# Altium schematic symbol library EasyARM-i.MX283-EV.SCHLIB: 58 symbols
Pins are listed as number, name and electrical type; pins without a type are passive.

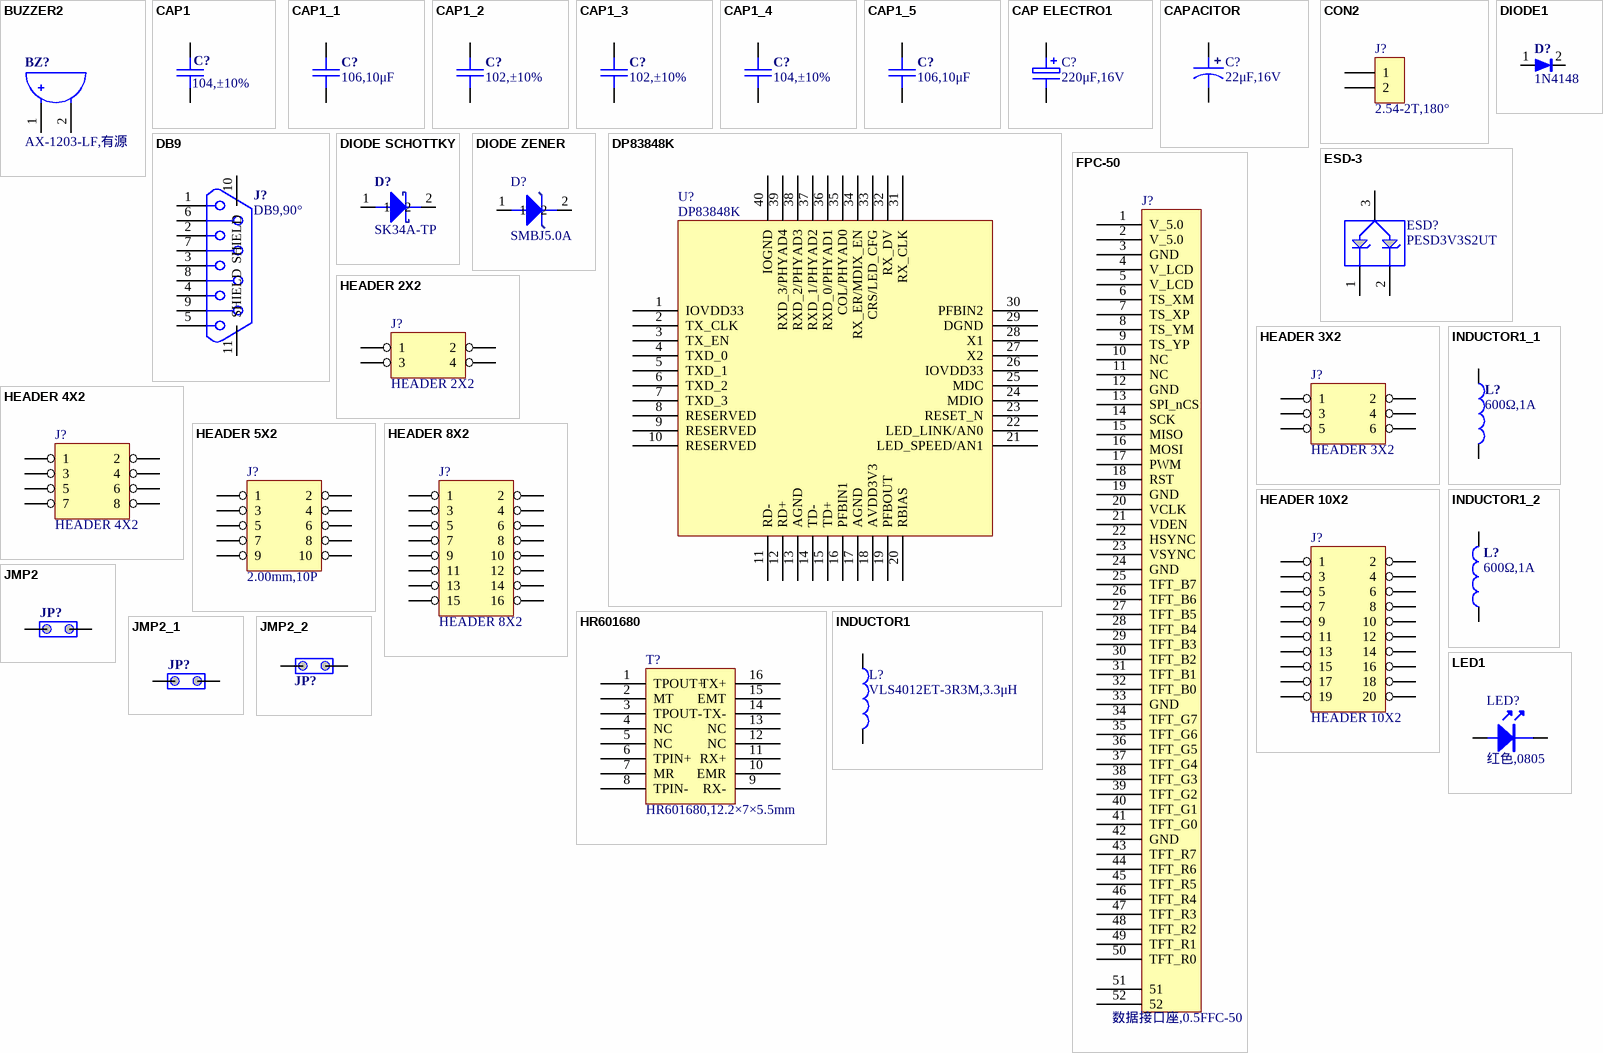
[diagram p0: symbols BUZZER2 to LED1]

## BUZZER2
designator BZ?  value AX-1203-LF,有源  (hidden comment: BUZZER2)
AX-1203-LF,有源,Φ12×7.5mm,,常州笠翔,RoHS; 物料代码: 1.06.09.0013; 名称: 讯响器; 贴片和直插: THT; 器件优选方案: 优先选用; 厂商: 常州笠翔; RoHS: RoHS; 型号: AX-1203-LF,有源,Φ12×7.5mm; ComponentLink1Description: ErpDataInfo; ComponentLink1URL: http://erp.zlgmcu.com/ErpExt/ErpData/ListMateriel.aspx?pkey=1.06.09.0013
footprint BUZZ-.28/.46
pins: 1 A, 2 B
2 alternate drawings of the same symbol

## CAP1
designator C?, comment 104,±10%
104,±10%,50V,X7R,0603,*,RoHS; 物料代码: 1.02.01.0032; 名称: 电容; 封装: 0603; 设备封装名称: C0603_104_X7R_50V_10%; 贴片和直插: SMT; 器件优选方案: 优先选用; Value: 104,±10%; RoHS: RoHS; 型号: 104,±10%,50V,X7R; ComponentLink1Description: ErpDataInfo; ComponentLink1URL: http://erp.zlgmcu.com/ErpExt/ErpData/ListMateriel.aspx?pkey=1.02.01.0032
footprint 0603C
pins: 1, 2
2 alternate drawings of the same symbol

## CAP1_1
designator C?, comment 106,10μF
106,10μF,±10%,10V,X5R,0805,RoHS; 物料代码: 1.02.02.0055; 名称: 电容; 封装: 0805; 设备封装名称: C0805_106_X5R_10V_10%; 贴片和直插: SMT; Value: 106,10μF; RoHS: RoHS; 型号: 106,10μF,±10%,10V,X5R; ComponentLink1Description: ErpDataInfo; ComponentLink1URL: http://erp.zlgmcu.com/ErpExt/ErpData/ListMateriel.aspx?pkey=1.02.02.0055
footprint 0805C
pins: 1, 2
2 alternate drawings of the same symbol

## CAP1_2
designator C?, comment 102,±10%
102,±10%,2KV,X7R,1206,*,RoHS; 物料代码: 1.02.03.0003; 名称: 电容; 封装: 1206; 设备封装名称: C1206_102_X7R_2KV_10%; 贴片和直插: SMT; Value: 102,±10%; RoHS: RoHS; 型号: 102,±10%,2KV,X7R; ComponentLink1Description: ErpDataInfo; ComponentLink1URL: http://erp.zlgmcu.com/ErpExt/ErpData/ListMateriel.aspx?pkey=1.02.03.0003
footprint 1206C
pins: 1, 2
2 alternate drawings of the same symbol

## CAP1_3
designator C?, comment 102,±10%
Capacitor; 物料代码: 1.02.03.0003; 名称: 电容; 规格型号: 102,±10%,2KV,X7R,1206,*,RoHS; 封装: 1206; 设备封装名称: C1206_102_X7R_2KV_10%; 贴片和直插: SMT; 现有库存: 26517; Value: 102,±10%; RoHS: RoHS; ComponentLink1Description: ErpDataInfo; ComponentLink1URL: http://erp.zlgmcu.com/ErpExt/ErpData/ListMateriel.aspx?pkey=1.02.03.0003
footprint 1206C
footprint IDC-14
pins: 1, 2
2 alternate drawings of the same symbol

## CAP1_4
designator C?, comment 104,±10%
Capacitor; 物料代码: 1.02.01.0032; 名称: 电容; 规格型号: 104,±10%,50V,X7R,0603,*,RoHS; 贴片和直插: SMT; 现有库存: 1717054; 封装: 0603; 设备封装名称: C0603_104_X7R_50V_10%; Value: 104,±10%; RoHS: RoHS; ComponentLink1Description: ErpDataInfo; ComponentLink1URL: http://erp.zlgmcu.com/ErpExt/ErpData/ListMateriel.aspx?pkey=1.02.01.0032
footprint 0603C
footprint IDC-14
pins: 1, 2
2 alternate drawings of the same symbol

## CAP1_5
designator C?, comment 106,10μF
Capacitor; 物料代码: 1.02.02.0055; 名称: 电容; 规格型号: 106,10μF,±10%,10V,X5R,0805,RoHS; 封装: 0805; 设备封装名称: C0805_106_X5R_10V_10%; 贴片和直插: SMT; 现有库存: 36878; Value: 106,10μF; RoHS: RoHS; ComponentLink1Description: ErpDataInfo; ComponentLink1URL: http://erp.zlgmcu.com/ErpExt/ErpData/ListMateriel.aspx?pkey=1.02.02.0055
footprint 0805C
footprint IDC-14
pins: 1, 2
2 alternate drawings of the same symbol

## CAP ELECTRO1
designator C?, comment 220μF,16V
220μF,16V,Ф6.3×7mm,,珠海华冠,RoHS; 物料代码: 1.02.11.0018; 名称: 电解电容; 贴片和直插: THT; Value: 220μF,16V; 厂商: 珠海华冠; RoHS: RoHS; 型号: 220μF,16V,Ф6.3×7mm; ComponentLink1Description: ErpDataInfo; ComponentLink1URL: http://erp.zlgmcu.com/ErpExt/ErpData/ListMateriel.aspx?pkey=1.02.11.0018
footprint RB-.1/.25
pins: 1, 2
2 alternate drawings of the same symbol

## CAPACITOR
designator C?, comment 22μF,16V
22μF,16V,B型,,AVX,RoHS; 物料代码: 1.02.05.0015; 名称: 钽电容; 设备封装名称: B_22uF_16V; 贴片和直插: SMT; 器件优选方案: 优先选用; Value: 22μF,16V; 厂商: AVX; RoHS: RoHS; 型号: 22μF,16V,B型; ComponentLink1Description: ErpDataInfo; ComponentLink1URL: http://erp.zlgmcu.com/ErpExt/ErpData/ListMateriel.aspx?pkey=1.02.05.0015
footprint CAP-B (121120 改动了一点lsb)
pins: 1, 2
2 alternate drawings of the same symbol

## CON2
designator J?  value 2.54-2T,180°  (hidden comment: CON2)
2.54-2T,180°,,*; 物料代码: 1.10.06.0009; 名称: 插座; 贴片和直插: THT; 型号: 2.54-2T,180°; ComponentLink1Description: ErpDataInfo; ComponentLink1URL: http://erp.zlgmcu.com/ErpExt/ErpData/ListMateriel.aspx?pkey=1.10.06.0009
footprint CN-2-2.54 (原名：CN-2)
pins: 1, 2
2 alternate drawings of the same symbol

## DB9
designator J?  value DB9,90°  (hidden comment: DB9)
DB9,90°,孔,铆合,带螺丝; 物料代码: 1.10.05.0014; 名称: 串口座; 贴片和直插: THT; 型号: DB9,90°,孔,铆合,带螺丝; ComponentLink1Description: ErpDataInfo; ComponentLink1URL: http://erp.zlgmcu.com/ErpExt/ErpData/ListMateriel.aspx?pkey=1.10.05.0014
footprint DB-9RA/F
pins: 1, 2, 3, 4, 5, 6, 7, 8, 9, 10 SHIELD, 11 SHIELD

## DIODE1
designator D?  value 1N4148  (hidden comment: DIODE1)  (no BOM)
1N4148,SOD-323,RoHS; 物料代码: 1.04.07.0027; 名称: 二极管; 设备封装名称: SOD-323_1N4148; 贴片和直插: SMT; 封装: SOD-323; RoHS: RoHS; 型号: 1N4148; ComponentLink1Description: ErpDataInfo; ComponentLink1URL: http://erp.zlgmcu.com/ErpExt/ErpData/ListMateriel.aspx?pkey=1.04.07.0027
footprint SOD-323
pins: 1, 2
2 alternate drawings of the same symbol

## DIODE SCHOTTKY
designator D?  value SK34A-TP  (hidden comment: DIODE SCHOTTKY)
SK34A-TP,DO-214AC,MCC,RoHS; 物料代码: 1.04.07.0021; 名称: 二极管; 设备封装名称: DO-214AC_SK34A; 贴片和直插: SMT; 封装: DO-214AC; 厂商: MCC; RoHS: RoHS; 型号: SK34A-TP; ComponentLink1Description: ErpDataInfo; ComponentLink1URL: http://erp.zlgmcu.com/ErpExt/ErpData/ListMateriel.aspx?pkey=1.04.07.0021
footprint SOD-SK34A
pins: 1, 2

## DIODE ZENER
designator D?  value SMBJ5.0A  (hidden comment: DIODE ZENER)
SMBJ5.0A,DO-214AA,君耀,RoHS; 物料代码: 1.04.03.0001; 名称: TVS管; 设备封装名称: DO-214AA_SMBJ5.0A; 贴片和直插: SMT; 器件优选方案: 优先选用; 封装: DO-214AA; 厂商: 君耀; RoHS: RoHS; 型号: SMBJ5.0A; ComponentLink1Description: ErpDataInfo; ComponentLink1URL: http://erp.zlgmcu.com/ErpExt/ErpData/ListMateriel.aspx?pkey=1.04.03.0001
footprint 1812D
pins: 1, 2
2 alternate drawings of the same symbol

## DP83848K
designator U?
Industrial Temperature Single Port 10/100 Ethernet Transceiver
footprint QFN50P600X600X100-41N
pins: 1 IOVDD33, 2 TX_CLK, 3 TX_EN, 4 TXD_0, 5 TXD_1, 6 TXD_2, 7 TXD_3, 8 RESERVED, 9 RESERVED, 10 RESERVED, 11 RD-, 12 RD+, 13 AGND, 14 TD-, 15 TD+, 16 PFBIN1, 17 AGND, 18 AVDD3V3, 19 PFBOUT, 20 RBIAS, 21 LED_SPEED/AN1, 22 LED_LINK/AN0, 23 RESET_N, 24 MDIO, 25 MDC, 26 IOVDD33, 27 X2, 28 X1, 29 DGND, 30 PFBIN2, 31 RX_CLK, 32 RX_DV, 33 CRS/LED_CFG, 34 RX_ER/MDIX_EN, 35 COL/PHYAD0, 36 RXD_0/PHYAD1, 37 RXD_1/PHYAD2, 38 RXD_2/PHYAD3, 39 RXD_3/PHYAD4, 40 IOGND, 41 DAP hidden to GND

## ESD-3
designator ESD?  value PESD3V3S2UT  (hidden comment: ESD-3)
PESD3V3S2UT,SOT-23,NXP,RoHS; 物料代码: 1.05.10.0361; 名称: IC; 设备封装名称: SOT-23_PESD3V3S2UT; 贴片和直插: SMT; 封装: SOT-23; 厂商: NXP; RoHS: RoHS; 型号: PESD3V3S2UT; ComponentLink1Description: ErpDataInfo; ComponentLink1URL: http://erp.zlgmcu.com/ErpExt/ErpData/ListMateriel.aspx?pkey=1.05.10.0361
footprint SOT-23
pins: 1, 2, 3
2 alternate drawings of the same symbol

## FPC-50
designator J?  value 数据接口座,0.5FFC-50  (hidden comment: FPC-50)
数据接口座,0.5FFC-50,SMD,下接,RoHS; 物料代码: 1.10.01.0028; 名称: 连接器-SMD; 贴片和直插: SMT; RoHS: RoHS; 型号: 数据接口座,0.5FFC-50,SMD,下接; ComponentLink1Description: ErpDataInfo; ComponentLink1URL: http://erp.zlgmcu.com/ErpExt/ErpData/ListMateriel.aspx?pkey=1.10.01.0028
footprint FFC0.5-50P-A
pins: 1 V_5.0, 2 V_5.0, 3 GND, 4 V_LCD, 5 V_LCD, 6 TS_XM, 7 TS_XP, 8 TS_YM, 9 TS_YP, 10 NC, 11 NC, 12 GND, 13 SPI_nCS, 14 SCK, 15 MISO, 16 MOSI, 17 PWM, 18 RST, 19 GND, 20 VCLK, 21 VDEN, 22 HSYNC, 23 VSYNC, 24 GND, 25 TFT_B7, 26 TFT_B6, 27 TFT_B5, 28 TFT_B4, 29 TFT_B3, 30 TFT_B2, 31 TFT_B1, 32 TFT_B0, 33 GND, 34 TFT_G7, 35 TFT_G6, 36 TFT_G5, 37 TFT_G4, 38 TFT_G3, 39 TFT_G2, 40 TFT_G1, 41 TFT_G0, 42 GND, 43 TFT_R7, 44 TFT_R6, 45 TFT_R5, 46 TFT_R4, 47 TFT_R3, 48 TFT_R2, 49 TFT_R1, 50 TFT_R0, 51, 52

## HEADER 2X2
designator J?
footprint IDC-4
pins: 1, 2, 3, 4
2 alternate drawings of the same symbol

## HEADER 3X2
designator J?
footprint IDC-6
pins: 1, 2, 3, 4, 5, 6
2 alternate drawings of the same symbol

## HEADER 4X2
designator J?
footprint IDC-8
pins: 1, 2, 3, 4, 5, 6, 7, 8
2 alternate drawings of the same symbol

## HEADER 5X2
designator J?  value 2.00mm,10P  (hidden comment: HEADER 5X2)
2.00mm,10P,180°,黑色; 物料代码: 1.10.04.0026; 名称: 简易牛角座; 贴片和直插: THT; 型号: 2.00mm,10P,180°,黑色; ComponentLink1Description: ErpDataInfo; ComponentLink1URL: http://erp.zlgmcu.com/ErpExt/ErpData/ListMateriel.aspx?pkey=1.10.04.0026
footprint IDE-10-2.0
pins: 1, 2, 3, 4, 5, 6, 7, 8, 9, 10
2 alternate drawings of the same symbol

## HEADER 8X2
designator J?
footprint IDC-16
pins: 1, 2, 3, 4, 5, 6, 7, 8, 9, 10, 11, 12, 13, 14, 15, 16
2 alternate drawings of the same symbol

## HEADER 10X2
designator J?
footprint IDC-20
pins: 1, 2, 3, 4, 5, 6, 7, 8, 9, 10, 11, 12, 13, 14, 15, 16, 17, 18, 19, 20
2 alternate drawings of the same symbol

## HR601680
designator T?  value HR601680,12.2×7×5.5mm  (hidden comment: HR601680)
HR601680,12.2×7×5.5mm,SOP-16,RoHS; 物料代码: 1.06.06.0002; 名称: 网络变压器; 设备封装名称: SOP-16_HR601680_12.2x7x5.5; 贴片和直插: SMT; 封装: SOP-16; RoHS: RoHS; 型号: HR601680,12.2×7×5.5mm; ComponentLink1Description: ErpDataInfo; ComponentLink1URL: http://erp.zlgmcu.com/ErpExt/ErpData/ListMateriel.aspx?pkey=1.06.06.0002
footprint TRAN16-12R2X7X5R5-SM
pins: 1 TPOUT+, 2 MT, 3 TPOUT-, 4 NC, 5 NC, 6 TPIN+, 7 MR, 8 TPIN-, 9 RX-, 10 EMR, 11 RX+, 12 NC, 13 NC, 14 TX-, 15 EMT, 16 TX+

## INDUCTOR1
designator L?  value VLS4012ET-3R3M,3.3μH  (hidden comment: INDUCTOR1)
VLS4012ET-3R3M,3.3μH,1.4A,SMD,TDK,RoHS; 物料代码: 1.03.01.0155; 名称: 电感; 贴片和直插: SMT; 封装: SMD; 厂商: TDK; RoHS: RoHS; 型号: VLS4012ET-3R3M,3.3μH,1.4A; ComponentLink1Description: ErpDataInfo; ComponentLink1URL: http://erp.zlgmcu.com/ErpExt/ErpData/ListMateriel.aspx?pkey=1.03.01.0155
footprint L-4.0S-VLS
pins: 1, 2
2 alternate drawings of the same symbol

## INDUCTOR1_1
designator L?, comment value 600Ω,1A  (hidden comment: INDUCTOR1)
600Ω,1A,DCR200mΩ,BH03Y314S-600R,SMD,0603,丰晶,RoHS; 物料代码: 1.03.03.0012; 名称: 磁珠; 封装: 0603; 贴片和直插: SMT; 厂商: 丰晶; RoHS: RoHS; 型号: 600Ω,1A,DCR200mΩ,BH03Y314S-600R,SMD; ComponentLink1Description: ErpDataInfo; ComponentLink1URL: http://erp.zlgmcu.com/ErpExt/ErpData/ListMateriel.aspx?pkey=1.03.03.0012
footprint 0603R
pins: 1, 2
2 alternate drawings of the same symbol

## INDUCTOR1_2
designator L?, comment value 600Ω,1A  (hidden comment: INDUCTOR1)
600Ω,1A,DCR200mΩ,BH03Y314S-600R,SMD,0603,丰晶,RoHS; 物料代码: 1.03.03.0012; 名称: 磁珠; 封装: 0603; 贴片和直插: SMT; 厂商: 丰晶; RoHS: RoHS; 型号: 600Ω,1A,DCR200mΩ,BH03Y314S-600R,SMD; ComponentLink1Description: ErpDataInfo; ComponentLink1URL: http://erp.zlgmcu.com/ErpExt/ErpData/ListMateriel.aspx?pkey=1.03.03.0012
footprint 0603R
pins: 1, 2
2 alternate drawings of the same symbol

## JMP2
designator JP?, comment 120Ω_EN  (value not drawn)
footprint 2 (Footprint not found)
footprint SIP-2
pins: 1, 2
2 alternate drawings of the same symbol

## JMP2_1
designator JP?, comment 120Ω_EN  (value not drawn)
footprint sip-2
pins: 1, 2
2 alternate drawings of the same symbol

## JMP2_2
designator JP?, comment 120Ω_EN  (value not drawn)
footprint 3 (Footprint not found)
footprint SIP-2
pins: 1, 2
2 alternate drawings of the same symbol

## LED1
designator LED?  value 红色,0805  (hidden comment: LED1)
红色,0805,0805,RoHS; 物料代码: 1.04.05.0001; 名称: 发光二极管; 封装: 0805; 设备封装名称: LED0805-RED; 贴片和直插: SMT; 器件优选方案: 优先选用; RoHS: RoHS; 型号: 红色,0805; ComponentLink1Description: ErpDataInfo; ComponentLink1URL: http://erp.zlgmcu.com/ErpExt/ErpData/ListMateriel.aspx?pkey=1.04.05.0001
footprint LED-0805
pins: 1, 2
2 alternate drawings of the same symbol

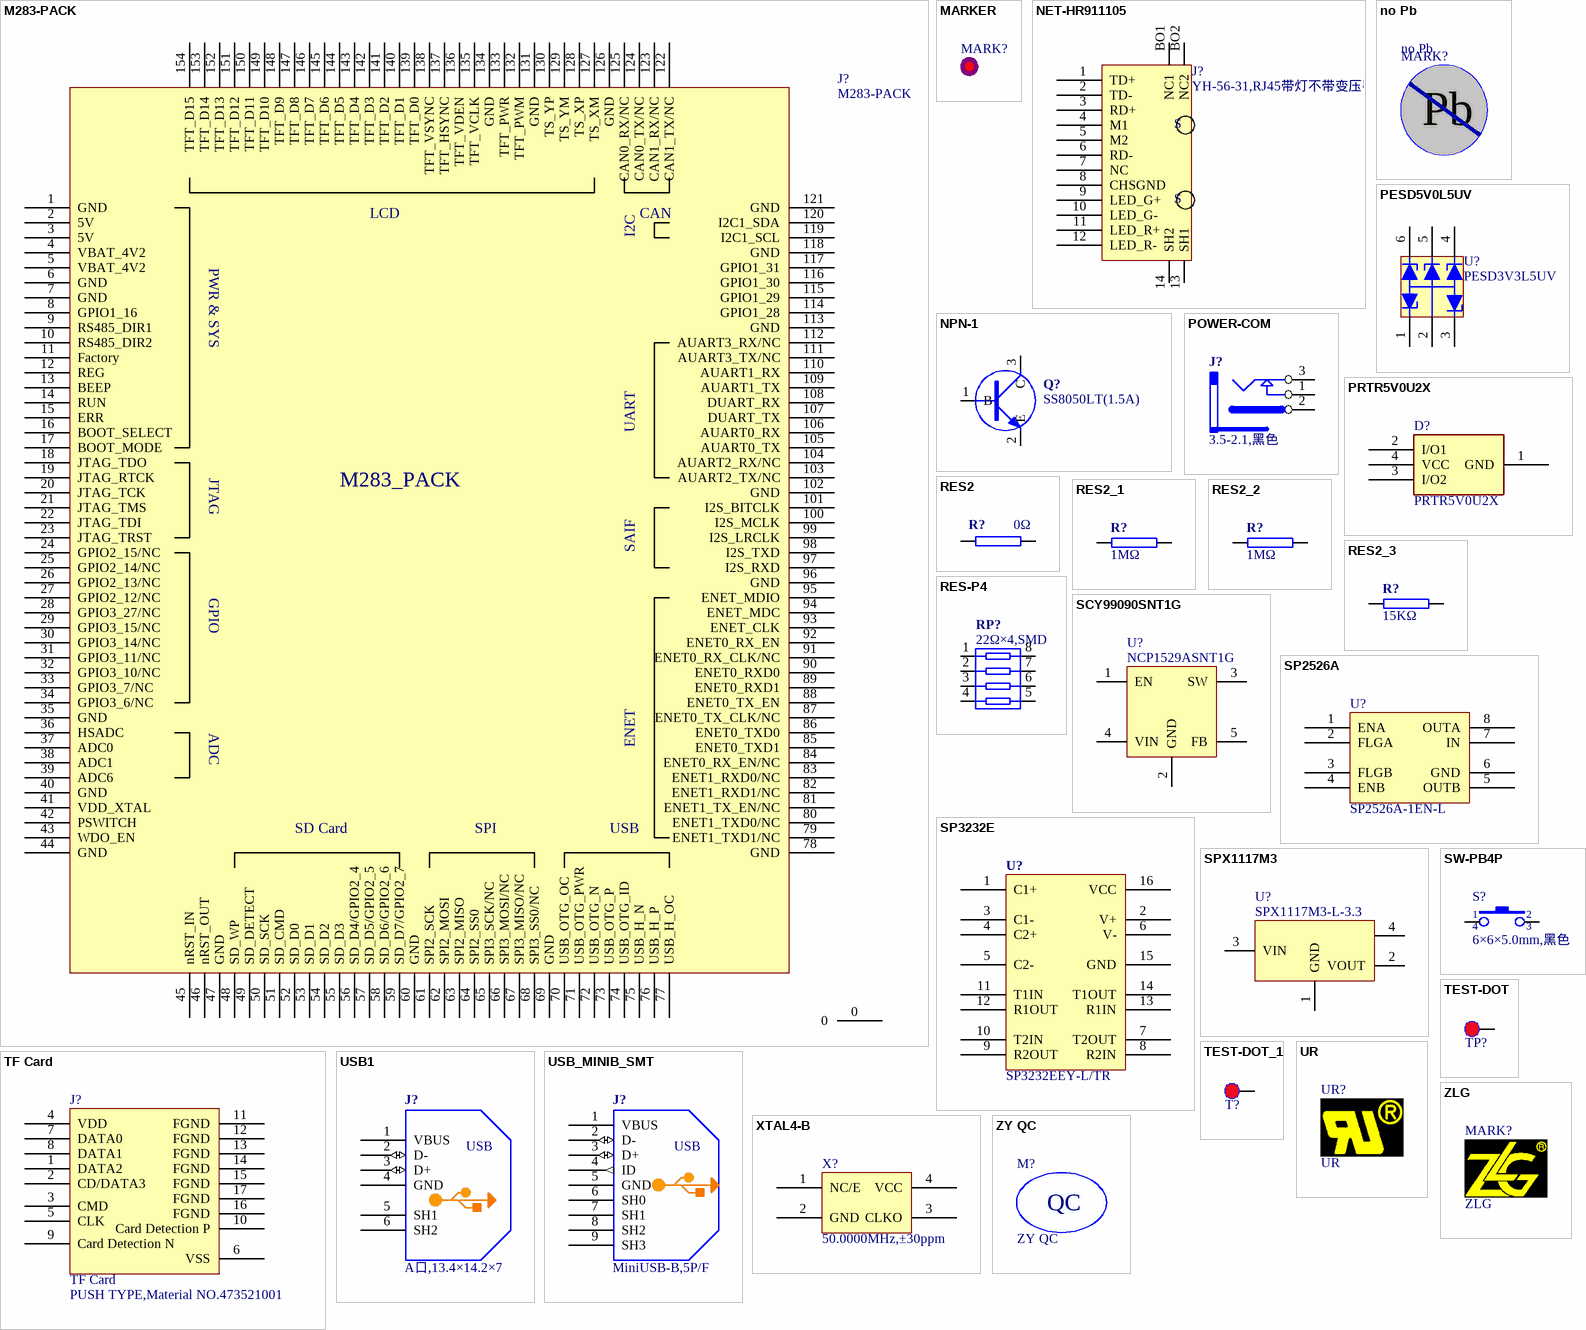
[diagram p1: symbols M283-PACK to ZY QC]

## M283-PACK
designator J?
M283
footprint M283-154 (Footprint not found)
pins: 0, 1 GND, 2 5V, 3 5V, 4 VBAT_4V2, 5 VBAT_4V2, 6 GND, 7 GND, 8 GPIO1_16, 9 RS485_DIR1, 10 RS485_DIR2, 11 Factory, 12 REG, 13 BEEP, 14 RUN, 15 ERR, 16 BOOT_SELECT, 17 BOOT_MODE, 18 JTAG_TDO, 19 JTAG_RTCK, 20 JTAG_TCK, 21 JTAG_TMS, 22 JTAG_TDI, 23 JTAG_TRST, 24 GPIO2_15/NC, 25 GPIO2_14/NC, 26 GPIO2_13/NC, 27 GPIO2_12/NC, 28 GPIO3_27/NC, 29 GPIO3_15/NC, 30 GPIO3_14/NC, 31 GPIO3_11/NC, 32 GPIO3_10/NC, 33 GPIO3_7/NC, 34 GPIO3_6/NC, 35 GND, 36 HSADC, 37 ADC0, 38 ADC1, 39 ADC6, 40 GND, 41 VDD_XTAL, 42 PSWITCH, 43 WDO_EN, 44 GND, 45 nRST_IN, 46 nRST_OUT, 47 GND, 48 SD_WP, 49 SD_DETECT, 50 SD_SCK, 51 SD_CMD, 52 SD_D0, 53 SD_D1, 54 SD_D2, 55 SD_D3, 56 SD_D4/GPIO2_4, 57 SD_D5/GPIO2_5, 58 SD_D6/GPIO2_6, 59 SD_D7/GPIO2_7, 60 GND, 61 SPI2_SCK, 62 SPI2_MOSI, 63 SPI2_MISO, 64 SPI2_SS0, 65 SPI3_SCK/NC, 66 SPI3_MOSI/NC, 67 SPI3_MISO/NC, 68 SPI3_SS0/NC, 69 GND, 70 USB_OTG_OC, 71 USB_OTG_PWR, 72 USB_OTG_N, 73 USB_OTG_P, 74 USB_OTG_ID, 75 USB_H_N, 76 USB_H_P, 77 USB_H_OC, 78 GND, 79 ENET1_TXD1/NC, 80 ENET1_TXD0/NC, 81 ENET1_TX_EN/NC, 82 ENET1_RXD1/NC, 83 ENET1_RXD0/NC, 84 ENET0_RX_EN/NC, 85 ENET0_TXD1, 86 ENET0_TXD0, 87 ENET0_TX_CLK/NC, 88 ENET0_TX_EN, 89 ENET0_RXD1, 90 ENET0_RXD0, 91 ENET0_RX_CLK/NC, 92 ENET0_RX_EN, 93 ENET_CLK, 94 ENET_MDC, 95 ENET_MDIO, 96 GND, 97 I2S_RXD, 98 I2S_TXD, 99 I2S_LRCLK, 100 I2S_MCLK, 101 I2S_BITCLK, 102 GND, 103 AUART2_TX/NC, 104 AUART2_RX/NC, 105 AUART0_TX, 106 AUART0_RX, 107 DUART_TX, 108 DUART_RX, 109 AUART1_TX, 110 AUART1_RX, 111 AUART3_TX/NC, 112 AUART3_RX/NC, 113 GND, 114 GPIO1_28, 115 GPIO1_29, 116 GPIO1_30, 117 GPIO1_31, 118 GND, 119 I2C1_SCL, 120 I2C1_SDA, 121 GND, 122 CAN1_TX/NC, 123 CAN1_RX/NC, 124 CAN0_TX/NC, 125 CAN0_RX/NC, 126 GND, 127 TS_XM, 128 TS_XP, 129 TS_YM, 130 TS_YP, 131 GND, 132 TFT_PWM, 133 TFT_PWR, 134 GND, 135 TFT_VCLK, 136 TFT_VDEN, 137 TFT_HSYNC, 138 TFT_VSYNC, 139 TFT_D0, 140 TFT_D1, 141 TFT_D2, 142 TFT_D3, 143 TFT_D4, 144 TFT_D5, 145 TFT_D6, 146 TFT_D7, 147 TFT_D8, 148 TFT_D9, 149 TFT_D10, 150 TFT_D11, 151 TFT_D12, 152 TFT_D13, 153 TFT_D14, 154 TFT_D15
text: LCD; CAN; I2C; PWR & SYS; UART; JTAG; M283_PACK; SAIF; GPIO; ADC; ENET; SD Card; SPI; USB

## MARKER
designator MARK?  (value not drawn)
footprint MARKER-C
footprint MARKER-S
pins: 0

## NET-HR911105
designator J?, comment value YH-56-31,RJ45带灯不带变压器  (hidden comment: HR911105C)
YH-56-31,RJ45带灯不带变压器; 物料代码: 1.10.05.0062; 名称: 网线插座; 贴片和直插: THT; 型号: YH-56-31,RJ45带灯不带变压器; ComponentLink1Description: ErpDataInfo; ComponentLink1URL: http://erp.zlgmcu.com/ErpExt/ErpData/ListMateriel.aspx?pkey=1.10.05.0062
footprint RJ45/LED
pins: 1 TD+, 2 TD-, 3 RD+, 4 M1, 5 M2, 6 RD-, 7 NC, 8 CHSGND, 9 LED_G+, 10 LED_G-, 11 LED_R+, 12 LED_R-, 13 SH1, 14 SH2, BO1 NC1, BO2 NC2
2 alternate drawings of the same symbol
text: S

## no Pb
designator MARK?
footprint ZY_no Pb-4
footprint ZY_no Pb-6
footprint ZY_no Pb-8
text: Pb

## NPN-1
designator Q?  value SS8050LT(1.5A)  (hidden comment: NPN-1)
SS8050LT(1.5A),SOT-23,江苏长电,RoHS; 物料代码: 1.04.09.0001; 名称: 三极管; 设备封装名称: SOT-23_SS8050LT; 贴片和直插: SMT; 封装: SOT-23; 厂商: 江苏长电; RoHS: RoHS; 型号: SS8050LT(1.5A); ComponentLink1Description: ErpDataInfo; ComponentLink1URL: http://erp.zlgmcu.com/ErpExt/ErpData/ListMateriel.aspx?pkey=1.04.09.0001
footprint SOT-23
pins: 1 B, 2 E, 3 C
2 alternate drawings of the same symbol

## PESD5V0L5UV
designator U?  value PESD3V3L5UV  (hidden comment: PESD5V0L5UV)
PESD3V3L5UV,SOT-666,NXP,RoHS; 物料代码: 1.05.10.0315; 名称: IC; 设备封装名称: SOT-666_PESD3V3L5UV; 贴片和直插: SMT; 封装: SOT-666; 厂商: NXP; RoHS: RoHS; 型号: PESD3V3L5UV; ComponentLink1Description: ErpDataInfo; ComponentLink1URL: http://erp.zlgmcu.com/ErpExt/ErpData/ListMateriel.aspx?pkey=1.05.10.0315
footprint SOT-666
pins: 1, 2, 3, 4, 5, 6
2 alternate drawings of the same symbol

## POWER-COM
designator J?  value 3.5-2.1,黑色  (hidden comment: POWER-COM)
3.5-2.1,黑色,RoHS; 物料代码: 1.10.05.0001; 名称: 电源座; 贴片和直插: THT; RoHS: RoHS; 型号: 3.5-2.1,黑色; ComponentLink1Description: ErpDataInfo; ComponentLink1URL: http://erp.zlgmcu.com/ErpExt/ErpData/ListMateriel.aspx?pkey=1.10.05.0001
footprint POWER-AC
pins: 1 A, 2 B, 3 B
2 alternate drawings of the same symbol

## PRTR5V0U2X
designator D?
PRTR5V0U2X,SOT-143B,NXP,RoHS; 物料代码: 1.05.10.0153; 名称: IC; 设备封装名称: SOT-143B_PRTR5V0U2X; 贴片和直插: SMT; Value: PRTR5V0U2X; 封装: SOT-143B; 厂商: NXP; RoHS: RoHS; 型号: PRTR5V0U2X; ComponentLink1Description: ErpDataInfo; ComponentLink1URL: http://erp.zlgmcu.com/ErpExt/ErpData/ListMateriel.aspx?pkey=1.05.10.0153
footprint SOT-143
pins: 1 GND, 2 I/O1, 3 I/O2, 4 VCC
2 alternate drawings of the same symbol

## RES2
designator R?, comment 0Ω
0Ω,0603,*,RoHS; 物料代码: 1.01.01.0001; 名称: 电阻; 封装: 0603; 设备封装名称: R0603_0R; 贴片和直插: SMT; 器件优选方案: 优先选用; Value: 0Ω; 厂商: *; RoHS: RoHS; 型号: 0Ω; ComponentLink1Description: ErpDataInfo; ComponentLink1URL: http://erp.zlgmcu.com/ErpExt/ErpData/ListMateriel.aspx?pkey=1.01.01.0001
footprint 0603R
pins: 1, 2
2 alternate drawings of the same symbol

## RES2_1
designator R?, comment 1MΩ
1MΩ,1206,RoHS; 物料代码: 1.01.03.0019; 名称: 电阻; 封装: 1206; 设备封装名称: R1206_1M; 贴片和直插: SMT; Value: 1MΩ; RoHS: RoHS; 型号: 1MΩ; ComponentLink1Description: ErpDataInfo; ComponentLink1URL: http://erp.zlgmcu.com/ErpExt/ErpData/ListMateriel.aspx?pkey=1.01.03.0019
footprint 1206R
pins: 1, 2
2 alternate drawings of the same symbol

## RES2_2
designator R?, comment 1MΩ
物料代码: 1.01.03.0019; 名称: 电阻; 规格型号: 1MΩ,1206,RoHS; 封装: 1206; 设备封装名称: R1206_1M; 贴片和直插: SMT; 现有库存: 12252; Value: 1MΩ; RoHS: RoHS; ComponentLink1Description: ErpDataInfo; ComponentLink1URL: http://erp.zlgmcu.com/ErpExt/ErpData/ListMateriel.aspx?pkey=1.01.03.0019
footprint 1206R
footprint IDC-14
pins: 1, 2
2 alternate drawings of the same symbol

## RES2_3
designator R?, comment 15KΩ
物料代码: 1.01.01.0054; 名称: 电阻; 规格型号: 15KΩ,0603,*,RoHS; 贴片和直插: SMT; 现有库存: 45635; 封装: 0603; 设备封装名称: R0603_15K; Value: 15KΩ; RoHS: RoHS; ComponentLink1Description: ErpDataInfo; ComponentLink1URL: http://erp.zlgmcu.com/ErpExt/ErpData/ListMateriel.aspx?pkey=1.01.01.0054
footprint 0603R
footprint IDC-14
pins: 1, 2
2 alternate drawings of the same symbol

## RES-P4
designator RP?, comment 22Ω×4,SMD
物料代码: 1.01.04.0001; 名称: 网络电阻; 规格型号: 22Ω×4,SMD,PZ-4-0.8,RoHS; 现有库存: 85384; 封装: PZ-4-0.8; 设备封装名称: 22R_4_0603; 贴片和直插: SMT; Value: 22Ω×4,SMD; ComponentLink1Description: ErpDataInfo; ComponentLink1URL: http://erp.zlgmcu.com/ErpExt/ErpData/ListMateriel.aspx?pkey=1.01.04.0001; RoHS: RoHS
footprint 0603RA
footprint IDC-14
pins: 1, 2, 3, 4, 5, 6, 7, 8
2 alternate drawings of the same symbol

## SCY99090SNT1G
designator U?  value NCP1529ASNT1G  (hidden comment: SCY99090SNT1G)
NCP1529ASNT1G,TSOP-5,ON,RoHS; 物料代码: 1.05.09.0091; 名称: IC; 设备封装名称: TSOP-5_NCP1529ASNT1G; 贴片和直插: SMT; 封装: TSOP-5; 厂商: ON; RoHS: RoHS; 型号: NCP1529ASNT1G; ComponentLink1Description: ErpDataInfo; ComponentLink1URL: http://erp.zlgmcu.com/ErpExt/ErpData/ListMateriel.aspx?pkey=1.05.09.0091
footprint SOT-23-5
pins: 1 EN, 2 GND, 3 SW, 4 VIN, 5 FB

## SP2526A
designator U?  value SP2526A-1EN-L  (hidden comment: SP2526A)
SP2526A-1EN-L,SO-8,EXAR,RoHS; 物料代码: 1.05.09.0064; 名称: IC; 设备封装名称: SO-8_SP2526A-1EN-L; 贴片和直插: SMT; 封装: SO-8; 厂商: EXAR; RoHS: RoHS; 型号: SP2526A-1EN-L; ComponentLink1Description: ErpDataInfo; ComponentLink1URL: http://erp.zlgmcu.com/ErpExt/ErpData/ListMateriel.aspx?pkey=1.05.09.0064
footprint SOIC127P600X175-8N
pins: 1 ENA, 2 FLGA, 3 FLGB, 4 ENB, 5 OUTB, 6 GND, 7 IN, 8 OUTA
2 alternate drawings of the same symbol

## SP3232E
designator U?  value SP3232EEY-L/TR  (hidden comment: SP3232E)
SP3232EEY-L/TR,TSSOP-16,EXAR,RoHS; 物料代码: 1.05.08.0024; 名称: IC; 设备封装名称: TSSOP-16_SP3232EEY-L/TR; 贴片和直插: SMT; 封装: TSSOP-16; 厂商: EXAR; RoHS: RoHS; 型号: SP3232EEY-L/TR; ComponentLink1Description: ErpDataInfo; ComponentLink1URL: http://erp.zlgmcu.com/ErpExt/ErpData/ListMateriel.aspx?pkey=1.05.08.0024
footprint SOP65P640X120-16N
pins: 1 C1+, 2 V+, 3 C1-, 4 C2+, 5 C2-, 6 V-, 7 T2OUT, 8 R2IN, 9 R2OUT, 10 T2IN, 11 T1IN, 12 R1OUT, 13 R1IN, 14 T1OUT, 15 GND, 16 VCC

## SPX1117M3
designator U?, comment value SPX1117M3-L-3.3  (hidden comment: SPX1117M3-L/TR)
SPX1117M3-L-3.3,SOT-223,EXAR,RoHS; 物料代码: 1.05.09.0025; 名称: IC; 设备封装名称: SOT-223_SPX1117M3-L-3.3; 贴片和直插: SMT; 封装: SOT-223; 厂商: EXAR; RoHS: RoHS; 型号: SPX1117M3-L-3.3; ComponentLink1Description: ErpDataInfo; ComponentLink1URL: http://erp.zlgmcu.com/ErpExt/ErpData/ListMateriel.aspx?pkey=1.05.09.0025
footprint SOT-223
pins: 1 GND, 2 VOUT, 3 VIN, 4

## SW-PB4P
designator S?  value 6×6×5.0mm,黑色  (hidden comment: SW-PB4P)
6×6×5.0mm,黑色,SMD,,*; 物料代码: 1.09.01.0003; 名称: 轻触按键; 贴片和直插: SMT; 型号: 6×6×5.0mm,黑色,SMD; ComponentLink1Description: ErpDataInfo; ComponentLink1URL: http://erp.zlgmcu.com/ErpExt/ErpData/ListMateriel.aspx?pkey=1.09.01.0003
footprint KEY-6S
pins: 1, 2, 3, 4
2 alternate drawings of the same symbol

## TEST-DOT
designator TP?, comment 5.0V  (value not drawn)
footprint PAD-40 (TEST-P)
footprint PAD-50 (TEST-P)
footprint PAD-25/40
pins: 1

## TEST-DOT_1
designator T?, comment 4.2V  (value not drawn)
footprint PAD-40 (TEST-P)
footprint PAD-50 (TEST-P)
footprint PAD-25/40
footprint PAD-35/50
pins: 1

## TF Card
designator J?  value PUSH TYPE,Material NO.473521001
PUSH TYPE,Material NO.473521001,15.2×14×1.88mm,molex,RoHS; 物料代码: 1.10.05.0147; 名称: TF卡座; 贴片和直插: SMT; 厂商: molex; RoHS: RoHS; 型号: PUSH TYPE,Material NO.473521001,15.2×14×1.88mm; ComponentLink1Description: ErpDataInfo; ComponentLink1URL: http://erp.zlgmcu.com/ErpExt/ErpData/ListMateriel.aspx?pkey=1.10.05.0147
footprint TF-MOLEX_a
pins: 1 DATA2, 2 CD/DATA3, 3 CMD, 4 VDD, 5 CLK, 6 VSS, 7 DATA0, 8 DATA1, 9 Card Detection N, 10 Card Detection P, 11 FGND, 12 FGND, 13 FGND, 14 FGND, 15 FGND, 16 FGND, 17 FGND

## UR
designator UR?
footprint ZY_UR-3X2
footprint ZY_UR-4X3

## USB1
designator J?, comment value A口,13.4×14.2×7  (hidden comment: USB)
A口,13.4×14.2×7,90°,RoHS; Text Field1: 50; Text Field2: 60; 物料代码: 1.10.05.0008; 名称: USB插座; 贴片和直插: THT; RoHS: RoHS; 型号: A口,13.4×14.2×7,90°; ComponentLink1Description: ErpDataInfo; ComponentLink1URL: http://erp.zlgmcu.com/ErpExt/ErpData/ListMateriel.aspx?pkey=1.10.05.0008
footprint USB-A (USB A口)
pins: 1 VBUS, 2 D- (io), 3 D+ (io), 4 GND (power), 5 SH1, 6 SH2
2 alternate drawings of the same symbol

## USB_MINIB_SMT
designator J?  value MiniUSB-B,5P/F  (hidden comment: USB_MINIB_SMT)
MiniUSB-B,5P/F,7.6×9×4,SMD,RoHS; Text Field1: 100; Text Field2: 80; 物料代码: 1.10.05.0024; 名称: USB插座; 贴片和直插: SMT; RoHS: RoHS; 型号: MiniUSB-B,5P/F,7.6×9×4,SMD; ComponentLink1Description: ErpDataInfo; ComponentLink1URL: http://erp.zlgmcu.com/ErpExt/ErpData/ListMateriel.aspx?pkey=1.10.05.0024
footprint USB_MINIB_SMT
pins: 1 VBUS, 2 D- (io), 3 D+ (io), 4 ID (out), 5 GND (power), 6 SH0, 7 SH1, 8 SH2, 9 SH3
text: USB

## XTAL4-B
designator X?  value 50.0000MHz,±30ppm  (hidden comment: XTAL4-B)
50.0000MHz,±30ppm,3.3V,OE,-40~85℃,SMD5032,,RoHS; 物料代码: 1.07.03.0037; 名称: 晶体振荡器; 贴片和直插: SMT; 封装: SMD5032; RoHS: RoHS; 型号: 50.0000MHz,±30ppm,3.3V,OE,-40~85℃; ComponentLink1Description: ErpDataInfo; ComponentLink1URL: http://erp.zlgmcu.com/ErpExt/ErpData/ListMateriel.aspx?pkey=1.07.03.0037
footprint XTAL4-5X3A
pins: 1 NC/E, 2 GND, 3 CLKO, 4 VCC

## ZLG
designator MARK?  (no BOM)
footprint ZLG0.7 (Footprint not found)
footprint ZLG1.0
footprint ZLG1.5
footprint ZLG2.0

## ZY QC
designator M?  (no BOM)
footprint ZY_QC
text: QC